# Altium schematic symbol library MB0049A.01.A.2.SchLib: 1 symbol
Pins are listed as number, name and electrical type; pins without a type are passive.

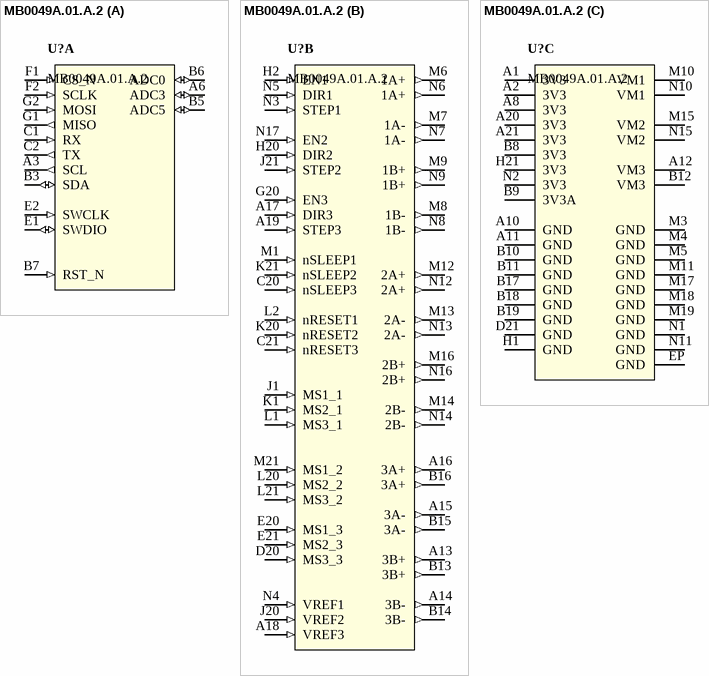
[diagram p0: symbol MB0049A.01.A.2]

## MB0049A.01.A.2
designator U?
3- axis stepper motor driver module
part A pins: A3 SCL (out), A6 ADC3 (io), B3 SDA (io), B5 ADC5 (io), B6 ADC0 (io), B7 RST_N (in), C1 RX (in), C2 TX (out), E1 SWDIO (io), E2 SWCLK (in), F1 CS_N (in), F2 SCLK (in), G1 MISO (out), G2 MOSI (in)
part B pins: A13 3B+ (out), A14 3B- (out), A15 3A- (out), A16 3A+ (out), A17 DIR3 (in), A18 VREF3 (in), A19 STEP3 (in), B13 3B+ (out), B14 3B- (out), B15 3A- (out), B16 3A+ (out), C20 nSLEEP3 (in), C21 nRESET3 (in), D20 MS3_3 (in), E20 MS1_3 (in), E21 MS2_3 (in), G20 EN3 (in), H2 EN1 (in), H20 DIR2 (in), J1 MS1_1 (in), J20 VREF2 (in), J21 STEP2 (in), K1 MS2_1 (in), K20 nRESET2 (in), K21 nSLEEP2 (in), L1 MS3_1 (in), L2 nRESET1 (in), L20 MS2_2 (in), L21 MS3_2 (in), M1 nSLEEP1 (in), M6 1A+ (out), M7 1A- (out), M8 1B- (out), M9 1B+ (out), M12 2A+ (out), M13 2A- (out), M14 2B- (out), M16 2B+ (out), M21 MS1_2 (in), N3 STEP1 (in), N4 VREF1 (in), N5 DIR1 (in), N6 1A+ (out), N7 1A- (out), N8 1B- (out), N9 1B+ (out), N12 2A+ (out), N13 2A- (out), N14 2B- (out), N16 2B+ (out), N17 EN2 (in)
part C pins: A1 3V3 (power), A2 3V3 (power), A8 3V3 (power), A10 GND (power), A11 GND (power), A12 VM3 (power), A20 3V3 (power), A21 3V3 (power), B8 3V3 (power), B9 3V3A, B10 GND (power), B11 GND (power), B12 VM3 (power), B17 GND (power), B18 GND (power), B19 GND (power), D21 GND (power), EP GND (power), H1 GND (power), H21 3V3 (power), M3 GND (power), M4 GND (power), M5 GND (power), M10 VM1 (power), M11 GND (power), M15 VM2 (power), M17 GND (power), M18 GND (power), M19 GND (power), N1 GND (power), N2 3V3 (power), N10 VM1 (power), N11 GND (power), N15 VM2 (power)